# EAGLE library part MAX232D (library IC)
IC DUAL EIA-232 DRVR/RCVR 16SOIC Manufacturer's datasheet <http://www.ti.com/lit/ds/symlink/max232.pdf>
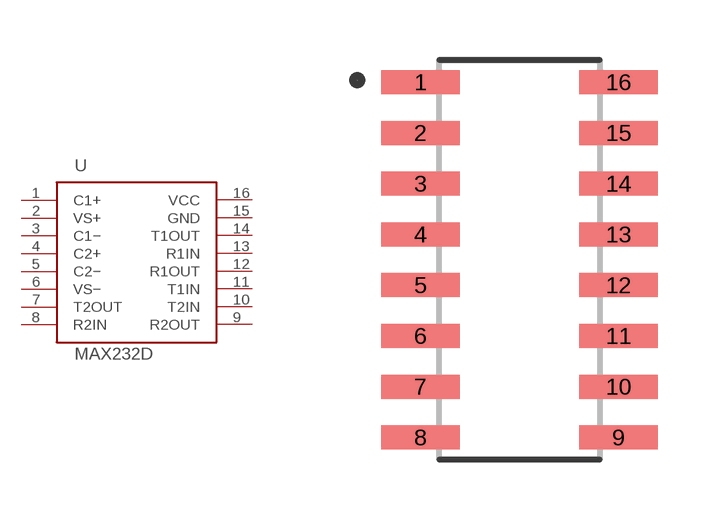
[diagram p44: symbol with the pads of SOIC-16; footprint SOIC-16]

Designator prefix U

## MAX232D (CREATED_BY: PCBLayout.com; DIGI-KEY-PART-NUMBER: 296-6936-5-ND; MANUFACTURER: Texas Instruments; MPN: MAX232D; PACKAGE: 16-SOIC)  [SOIC-16]
1  C1+  pas
2  VS+  out
3  C1−  pas
4  C2+  pas
5  C2−  pas
6  VS−  out
7  T2OUT  out
8  R2IN  in
9  R2OUT  out
10  T2IN  in
11  T1IN  in
12  R1OUT  out
13  R1IN  in
14  T1OUT  out
15  GND  pwr
16  VCC  pwr

## Footprint SOIC-16 (pad centres in mm)
smd 1.97 x 0.6: 1 -2.475,4.445; 2 -2.475,3.175; 3 -2.475,1.905; 4 -2.475,0.635; 5 -2.475,-0.635; 6 -2.475,-1.905; 7 -2.475,-3.175; 8 -2.475,-4.445; 9 2.475,-4.445; 10 2.475,-3.175; 11 2.475,-1.905; 12 2.475,-0.635; 13 2.475,0.635; 14 2.475,1.905; 15 2.475,3.175; 16 2.475,4.445